# Altium footprint library TI WEBENCH.PcbLib: 30 footprints (part 1 of 2)
Each footprint in its own frame and in the unit in brackets; x right, y up, seen from the top. Pads: shape width x height; smd on the part's side, far side on the other; paste and mask are expansions set on the pad; w line width, h text height; cw(c..) or ccw(c..) is an arc to the next point about the centre after c.
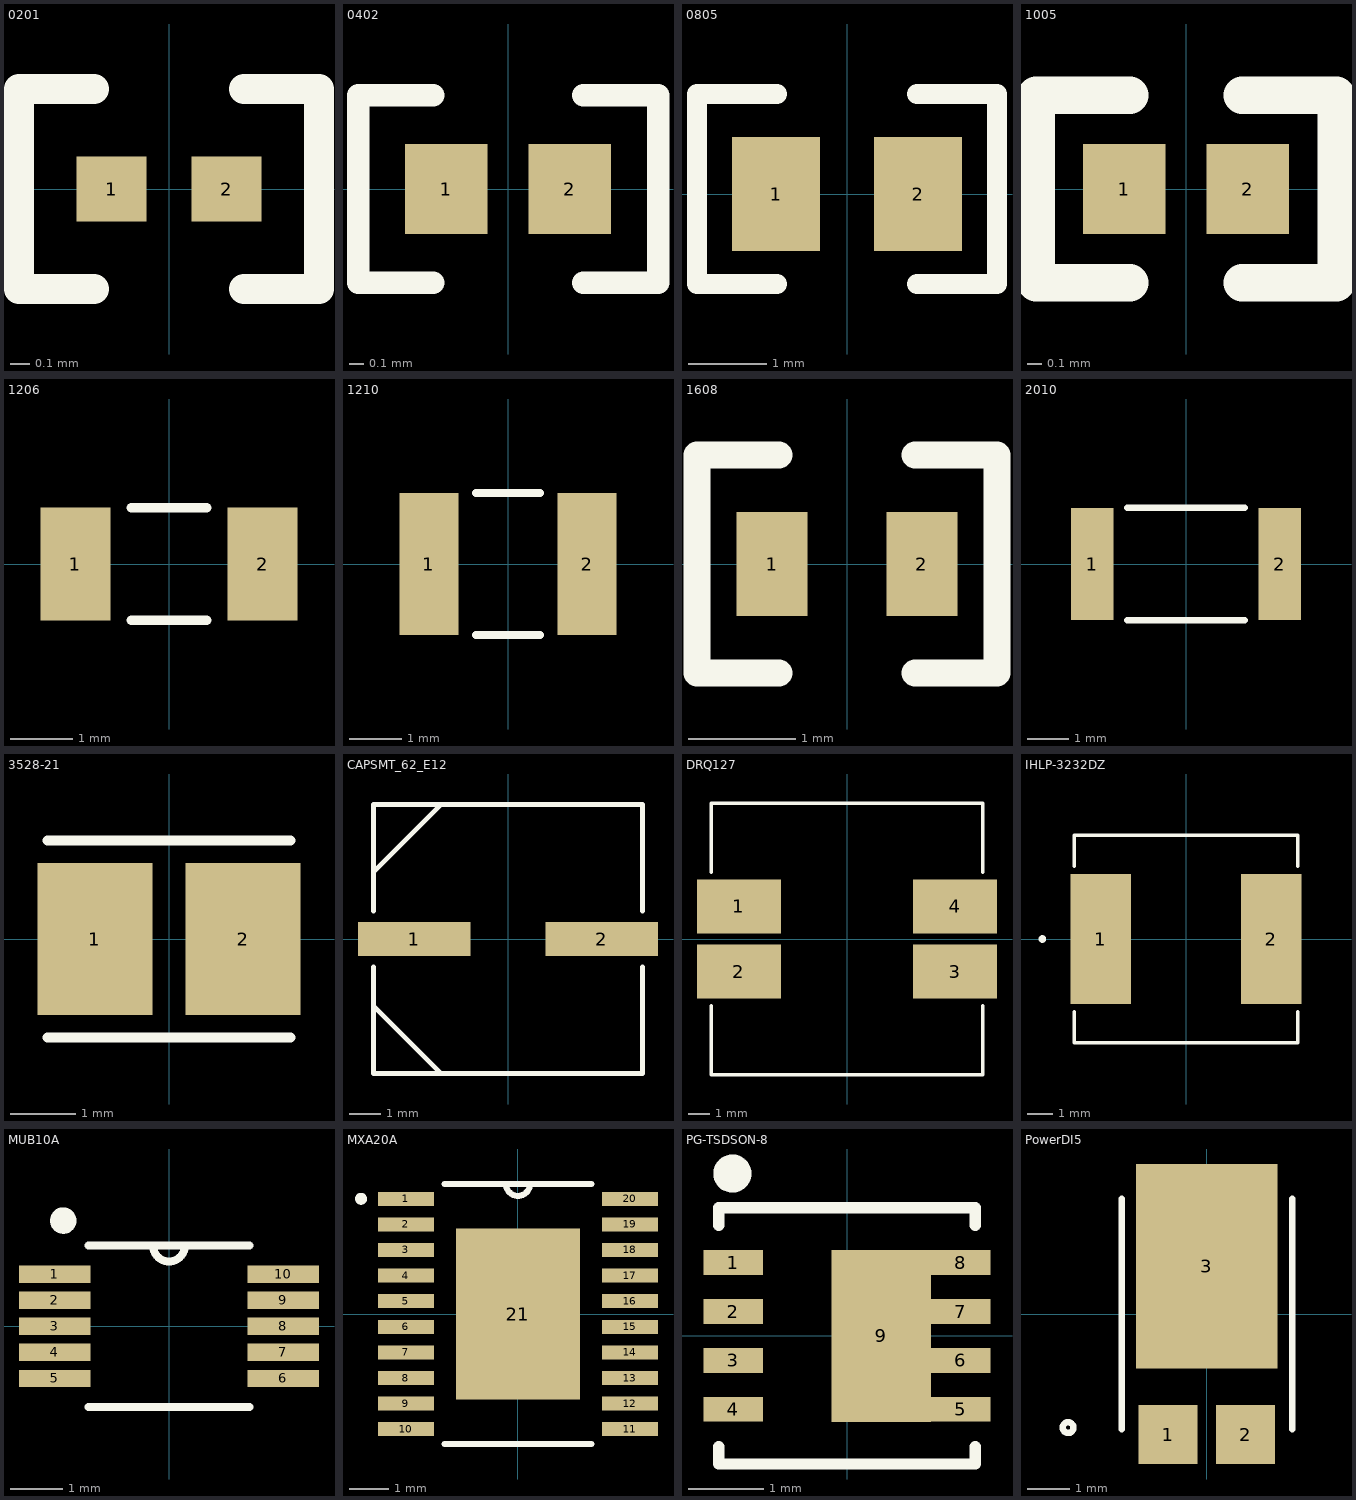
[diagram p0: the footprints below, top view; thin cyan lines are the x and y axes]

## 0201 [mil]
pads (2):
  rect 14x13 smd: 1(-11.5,0) 2(11.5,0)
Top Overlay:
  lines w6: -15,-20 -30,-20 -30,20 -15,20 ; 15,-20 30,-20 30,20 15,20

## 0402 [mil]
pads (2):
  rect 22x24 smd: 1(-16.5,0) 2(16.5,0)
Top Overlay:
  lines w6: -20,-25 -40,-25 -40,25 -20,25 ; 20,-25 40,-25 40,25 20,25

## 0805 [mil]
pads (2):
  rect 44x57 smd: 1(-35.5,0) 2(35.5,0)
Top Overlay:
  lines w10: -35,-45 -75,-45 -75,50 -35,50 ; 35,-45 75,-45 75,50 35,50

## 1005 [mil]
pads (2):
  rect 22x24 smd: 1(-16.5,0) 2(16.5,0)
Top Overlay:
  lines w10: -15,-25 -40,-25 -40,25 -15,25 ; 15,-25 40,-25 40,25 15,25

## 1206 [mil]
pads (2):
  rect 44x71 smd: 1(-59,0) 2(59,0)
Top Overlay:
  lines w6: -23.9,-35.5 23.9,-35.5 ; -23.9,35.5 23.9,35.5

## 1210 [mil]
pads (2):
  rect 44x106 smd: 1(-59,0) 2(59,0)
Top Overlay:
  lines w6: -23.9,-53 23.9,-53 ; -23.9,53 23.9,53

## 1608 [mil]
pads (2):
  rect 26x38 smd: 1(-27.5,0) 2(27.5,0)
Top Overlay:
  lines w10: -25,-40 -55,-40 -55,-30 -55,40 -25,40 ; 25,-40 55,-40 55,40 25,40

## 2010 [mil]
pads (2):
  rect 40x106 smd: 1(-88.5,0) 2(88.5,0)
Top Overlay:
  lines w6: -55.4,-53 55.4,-53 ; -55.4,53 55.4,53

## 3528-21 [mil]
pads (2):
  rect 69x91 smd: 1(-44.5,0) 2(44.5,0)
Top Overlay:
  lines w6: -73,-59 73,-59 ; -73,59 73,59

## CAPSMT_62_E12 [mil]
pads (2):
  rect 140x43 smd: 1(-117,0) 2(117,0)
Top Overlay:
  lines w6: -167.5,-83.75 -83.75,-167.5 ; -167.5,-34.6 -167.5,-167.5 167.5,-167.5 167.5,-34.6 ; -167.5,34.6 -167.5,167.5 167.5,167.5 167.5,34.6 ; -167.5,83.75 -83.75,167.5

## DRQ127 [mil]
pads (4):
  rect 152x98 smd: 1(-196,59) 2(-196,-59) 3(196,-59) 4(196,59)
Top Overlay:
  lines w6: -246,-121.1 -246,-246 246,-246 246,-121.1 ; -246,121.1 -246,246 246,246 246,121.1

## IHLP-3232DZ [mil]
pads (2):
  rect 95x203 smd: 1(-133.5,0) 2(133.5,0)
Top Overlay:
  circle w6: c-225,0 r3
  lines w6: -175,-114.6 -175,-162.5 175,-162.5 175,-114.6 ; -175,114.6 -175,162.5 175,162.5 175,114.6

## MUB10A [mil]
pads (10):
  rect 54x13 smd: 1(-86.5,39.37) 2(-86.5,19.68) 3(-86.5,0) 4(-86.5,-19.68) 5(-86.5,-39.37) 6(86.5,-39.37) 7(86.5,-19.68) 8(86.5,0) 9(86.5,19.68) 10(86.5,39.37)
Top Overlay:
  circle w10: c-80,80 r5
  lines w6: -61,-61 61,-61 ; -61,61 61,61 ; -12,61 ccw(c0,61) 12,61

## MXA20A [mil]
pads (21):
  rect 56x14 smd: 1(-112,115.16) 2(-112,89.57) 3(-112,63.98) 4(-112,38.39) 5(-112,12.8) 6(-112,-12.8) 7(-112,-38.39) 8(-112,-63.98) 9(-112,-89.57) 10(-112,-115.16) 11(112,-115.16) 12(112,-89.57) 13(112,-63.98) 14(112,-38.39) 15(112,-12.8) 16(112,12.8) 17(112,38.39) 18(112,63.98) 19(112,89.57) 20(112,115.16)
  rect 124x171 smd: 21(0,0)
Top Overlay:
  circle w6: c-156.8,115.16 r3
  lines w6: -73.51,-130 73.51,-130 ; -73.51,130 73.51,130 ; -12,130 ccw(c0,130) 12,130

## PG-TSDSON-8 [mil]
pads (9):
  rect 31x13 smd paste-6.5: 1(-59.5,38.39) 2(-59.5,12.8) 3(-59.5,-12.8) 4(-59.5,-38.39) 5(59.5,-38.39) 6(59.5,-12.8) 7(59.5,12.8) 8(59.5,38.39)
  rect 52x90 smd paste-26 mask+1: 9(18,0)
Top Layer:
  region: -75,0
Top Overlay:
  circle w10: c-60,85 r5
  lines w6: -67,-57.99 -67,-67 67,-67 67,-57.99 ; -67,57.99 -67,67 67,67 67,57.99
Top Paste:
  region: -75,0
  region: 75,44.89 44,44.89 44,31.89 75,31.89
  region: 75,19.3 44,19.3 44,6.3 75,6.3
  region: 75,-6.3 44,-6.3 44,-19.3 75,-19.3
  region: 75,-31.89 44,-31.89 44,-44.89 75,-44.89
  region: -44,-31.89 -75,-31.89 -75,-44.89 -44,-44.89
  region: -44,-6.3 -75,-6.3 -75,-19.3 -44,-19.3
  region: -44,19.3 -75,19.3 -75,6.3 -44,6.3
  region: -44,44.89 -75,44.89 -75,31.89 -44,31.89
Top Solder:
  region: -75,0

## PowerDI5 [mil]
pads (3):
  rect 55x55 smd: 1(-36.22,-112.5) 2(36.22,-112.5)
  rect 132x191 smd: 3(0,44.5)
Top Overlay:
  circle w6: c-129.5,-106 r5
  lines w6: -79.5,-107.5 -79.5,107.5 ; 79.5,-107.5 79.5,107.5